# Altium schematic symbol library Inductors-0805.SchLib: 2 symbols
Pins are listed as number, name and electrical type; pins without a type are passive.

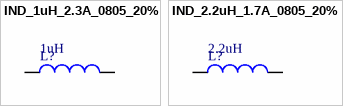
[diagram p0: symbols IND_1uH_2.3A_0805_20% to IND_2.2uH_1.7A_0805_20%]

## IND_1uH_2.3A_0805_20%
designator L?, comment 1uH
1uH 20% 2.3A 0805; PartNumber: DFE201210S-1R0M=P2; Manufacturer: Murata; PackageReference: 0805; PackageDescription: 0805 (2012 metric); Mounting Technology: Surface Mount; Current: 2.3A; Value: 1uH
simulation model INDUCTOR (Inductor)
signal-integrity model Inductor
footprint IND0805 (Chip Resistor, Body 2.0x1.25mm)
pins: 1, 2

## IND_2.2uH_1.7A_0805_20%
designator L?, comment 2.2uH
2.2uH 20% 1.7A 0805; PartNumber: LQM21PN2R2MGHL; Manufacturer: Murata; PackageReference: 0805; PackageDescription: 0805 (2012 metric); Mounting Technology: Surface Mount; Current: 1.7A; Value: 2.2uH
simulation model INDUCTOR (Inductor)
signal-integrity model Inductor
footprint IND0805 (Chip Resistor, Body 2.0x1.25mm)
pins: 1, 2